# EAGLE library part PIC18F1320 (library WallerLabLib)
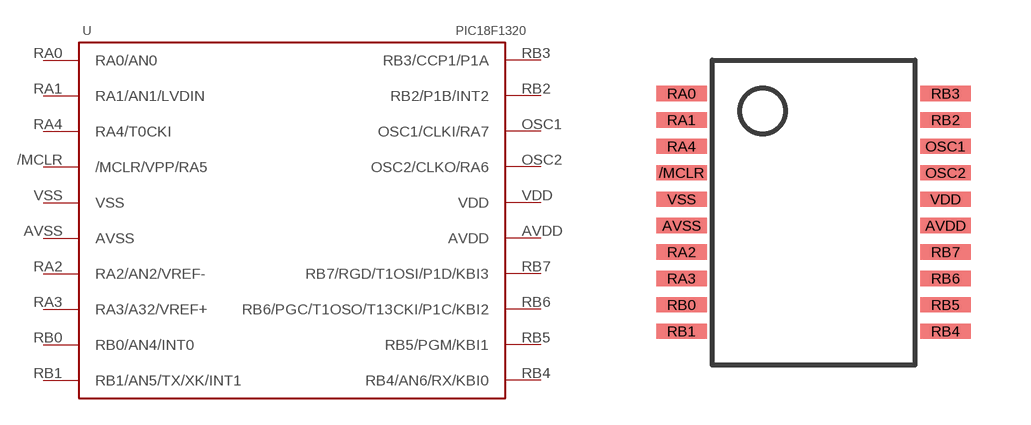
[diagram p0: symbol with the pads of 20-SSOP; footprint 20-SSOP]

Designator prefix -

## PIC18F1320V1  [20-SSOP]
/MCLR  /MCLR/VPP/RA5
AVDD  AVDD
AVSS  AVSS
OSC1  OSC1/CLKI/RA7
OSC2  OSC2/CLKO/RA6
RA0  RA0/AN0
RA1  RA1/AN1/LVDIN
RA2  RA2/AN2/VREF-
RA3  RA3/A32/VREF+
RA4  RA4/T0CKI
RB0  RB0/AN4/INT0
RB1  RB1/AN5/TX/XK/INT1
RB2  RB2/P1B/INT2
RB3  RB3/CCP1/P1A
RB4  RB4/AN6/RX/KBI0
RB5  RB5/PGM/KBI1
RB6  RB6/PGC/T1OSO/T13CKI/P1C/KBI2
RB7  RB7/RGD/T1OSI/P1D/KBI3
VDD  VDD
VSS  VSS

## Footprint 20-SSOP (pad centres in mm)
smd 1.27 x 0.381: /MCLR -3.302,0.991; AVDD 3.302,-0.33; AVSS -3.302,-0.33; OSC1 3.302,1.651; OSC2 3.302,0.991; RA0 -3.302,2.972; RA1 -3.302,2.311; RA2 -3.302,-0.991; RA3 -3.302,-1.651; RA4 -3.302,1.651; RB0 -3.302,-2.311; RB1 -3.302,-2.972; RB2 3.302,2.311; RB3 3.302,2.972; RB4 3.302,-2.972; RB5 3.302,-2.311; RB6 3.302,-1.651; RB7 3.302,-0.991; VDD 3.302,0.33; VSS -3.302,0.33